# Altium footprint library DF37NB-10DS-0.4V(51).PcbLib: 1 footprints
Each footprint in its own frame and in the unit in brackets; x right, y up, seen from the top. Pads: shape width x height; smd on the part's side, far side on the other; paste and mask are expansions set on the pad; w line width, h text height; cw(c..) or ccw(c..) is an arc to the next point about the centre after c.
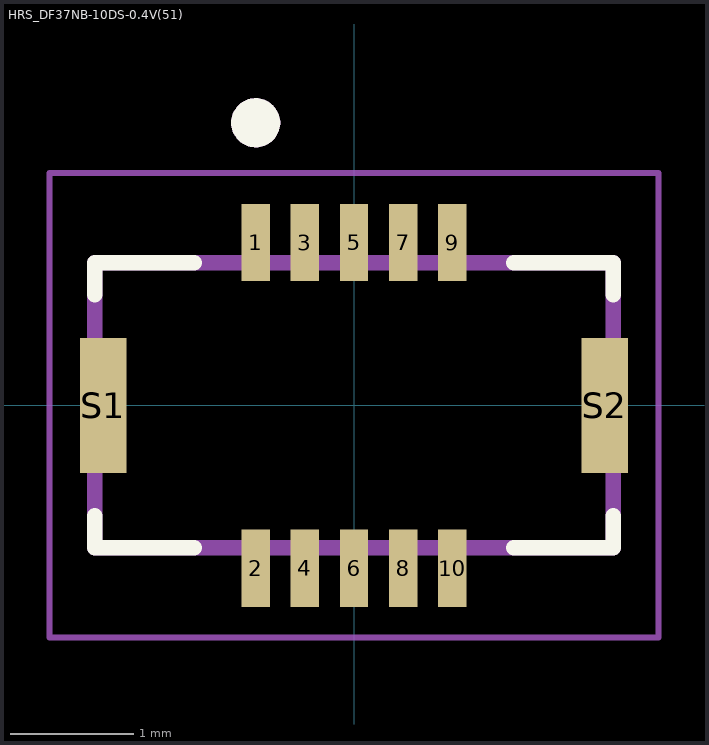
[diagram p0: the footprint, top view; thin cyan lines are the x and y axes]

## HRS_DF37NB-10DS-0.4V(51) [mm]
pads (12):
  rect 0.23x0.63 smd paste-1: 1(-0.8,1.325) 2(-0.8,-1.325) 3(-0.4,1.325) 4(-0.4,-1.325) 5(0,1.325) 6(0,-1.325) 7(0.4,1.325) 8(0.4,-1.325) 9(0.8,1.325) 10(0.8,-1.325)
  rect 0.38x1.1 smd: S1(-2.04,0) S2(2.04,0)
Top Overlay:
  circle w0.2: c-0.8,2.3 r0.1
  lines w0.127: -2.11,-0.9 -2.11,-1.16 -1.3,-1.16 ; -2.11,0.9 -2.11,1.16 -1.3,1.16 ; 1.3,-1.16 2.11,-1.16 2.11,-0.9 ; 1.3,1.16 2.11,1.16 2.11,0.9
Mechanical 13:
  circle w0.2: c-0.8,2.3 r0.1
  lines w0.127: -2.11,-1.16 2.11,-1.16 2.11,1.16 -2.11,1.16 -2.11,-1.16
Mechanical 15:
  lines w0.05: -2.48,-1.89 2.48,-1.89 2.48,1.89 -2.48,1.89 -2.48,-1.89
3D body "step_temp.STEP": height -0.38, standoff -1.36, extent -2.18,-1.49 2.04,1.49